# Altium schematic symbol library MW6S010GNR1.Schlib: 1 symbol
Pins are listed as number, name and electrical type; pins without a type are passive.

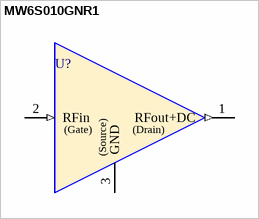
[diagram p0: symbol MW6S010GNR1]

## MW6S010GNR1
designator U?
RF Amplifiers
pins: 1 RFout+DC (out), 2 RFin (in), 3 GND (power)
text: (Gate); (Drain); (Source)